# EAGLE library part MN3102 (library sonic-detours)
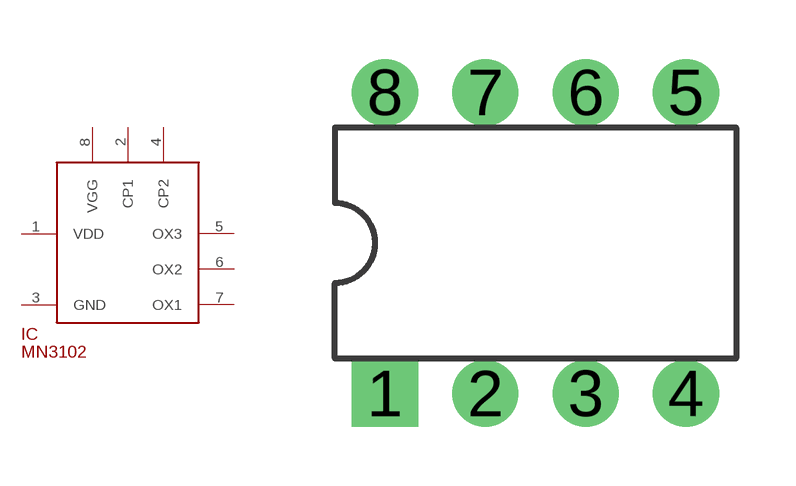
[diagram p7: symbol with the pads of DIL08; footprint DIL08]

Designator prefix IC

## MN3102  [DIL08]
1  VDD
2  CP1
3  GND
4  CP2
5  OX3
6  OX2
7  OX1
8  VGG

## Footprint DIL08 (pad centres in mm)
Dual In Line Package
drill 0.813 pad 1.676 square: 1 -3.81,-3.81
drill 0.813 pad 1.676: 2 -1.27,-3.81; 3 1.27,-3.81; 4 3.81,-3.81; 5 3.81,3.81; 6 1.27,3.81; 7 -1.27,3.81; 8 -3.81,3.81